# EAGLE library part TPS6120X (library Power Supplies)
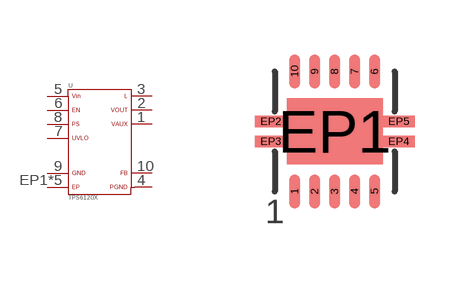
[diagram p1: symbol with the pads of VSON-10; footprint VSON-10]

Designator prefix U

## TPS6120X  [VSON-10]
1  VAUX  pas
2  VOUT  pas
3  L  pas
4  PGND  pas
5  VIN  pas
6  EN  pas
7  UVLO  pas
8  PS  pas
9  GND  pas
10  FB  pas
EP1  EP  pas
EP2  EP  pas
EP3  EP  pas
EP4  EP  pas
EP5  EP  pas

## Footprint VSON-10 (pad centres in mm)
smd 0.28 x 0.85: 1 -1,-1.5; 2 -0.5,-1.5; 3 0,-1.5; 4 0.5,-1.5; 5 1,-1.5; 6 1,1.5; 7 0.5,1.5; 8 0,1.5; 9 -0.5,1.5; 10 -1,1.5
smd 2.4 x 1.65: EP1 0,0
smd 0.8 x 0.28: EP2 -1.6,0.25; EP3 -1.6,-0.25; EP4 1.6,-0.25; EP5 1.6,0.25